# EAGLE library part J-M8-? (library VIO_module)
Jack connector, male, 8 poles
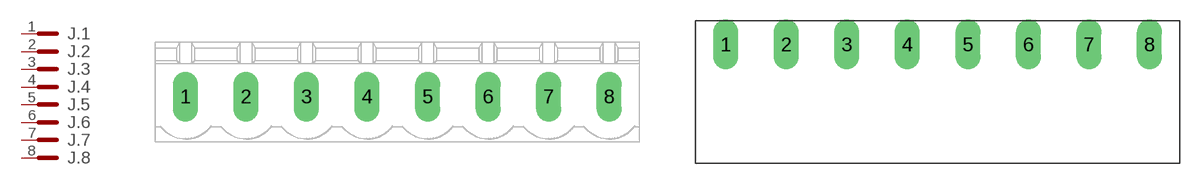
[diagram p5: symbol with the pads of J-M8-TB508HV; footprints J-M8-TB508HV, J-M8-TB508HH]

Designator prefix J; gates .1=J-M1 .2=J-M1 .3=J-M1 .4=J-M1 .5=J-M1 .6=J-M1 .7=J-M1 .8=J-M1

## J-M8-TB508HV  [J-M8-TB508HV]
1  .1:1  pas
2  .2:1  pas
3  .3:1  pas
4  .4:1  pas
5  .5:1  pas
6  .6:1  pas
7  .7:1  pas
8  .8:1  pas

## J-M8-TB508HH  [J-M8-TB508HH]
Pads as for J-M8-TB508HV

## J-M8-TB508  [J-M8-TB508]
Pads as for J-M8-TB508HV

## Footprint J-M8-TB508HV (pad centres in mm)
Jack, male 8 pin, terminal block, 200 mil, horizontal
drill 1.4 long: 1 0,0; 2 5.08,0; 3 10.16,0; 4 15.24,0; 5 20.32,0; 6 25.4,0; 7 30.48,0; 8 35.56,0

## Footprint J-M8-TB508HH (pad centres in mm)
drill 1.4 long: 1 0,0; 2 5.08,0; 3 10.16,0; 4 15.24,0; 5 20.32,0; 6 25.4,0; 7 30.48,0; 8 35.56,0

## Footprint J-M8-TB508 (pad centres in mm)
terminal block, 8 poles 5,08mm grid, all variants
drill 1.4 long: 1 0,0; 2 5.08,0; 3 10.16,0; 4 15.24,0; 5 20.32,0; 6 25.4,0; 7 30.48,0; 8 35.56,0